# EAGLE library part 90814-0210 (library Molex_By_element14_Batch_1)
CONN HEADER 10POS 1.27MM SMD TIN
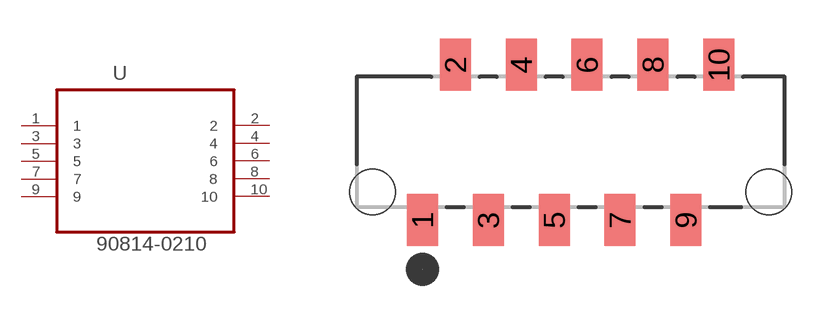
[diagram p0: symbol with the pads of MOLEX_90814-0210; footprint MOLEX_90814-0210]

Designator prefix U

## 90814-0210 (MPN: 90814-0210; OC_FARNELL: 1757026; OC_NEWARK: 34R6217; PACKAGE: CONN-10POS; SUPPLIER: Molex)  [MOLEX_90814-0210]
1  1  pas
2  2  pas
3  3  pas
4  4  pas
5  5  pas
6  6  pas
7  7  pas
8  8  pas
9  9  pas
10  10  pas

## Footprint MOLEX_90814-0210 (pad centres in mm)
smd 1.194 x 2.007: 1 -5.715,-3.175; 2 -4.445,2.819; 3 -3.175,-3.175; 4 -1.905,2.819; 5 -0.635,-3.175; 6 0.635,2.819; 7 1.905,-3.175; 8 3.175,2.819; 9 4.445,-3.175; 10 5.715,2.819
hole 1.753 at -7.645,-2.083
hole 1.753 at 7.645,-2.083